# Altium footprint library new-version.PcbLib: 241 footprints (part 1 of 16)
Each footprint in its own frame and in the unit in brackets; x right, y up, seen from the top. Pads: shape width x height; smd on the part's side, far side on the other; paste and mask are expansions set on the pad; w line width, h text height; cw(c..) or ccw(c..) is an arc to the next point about the centre after c.
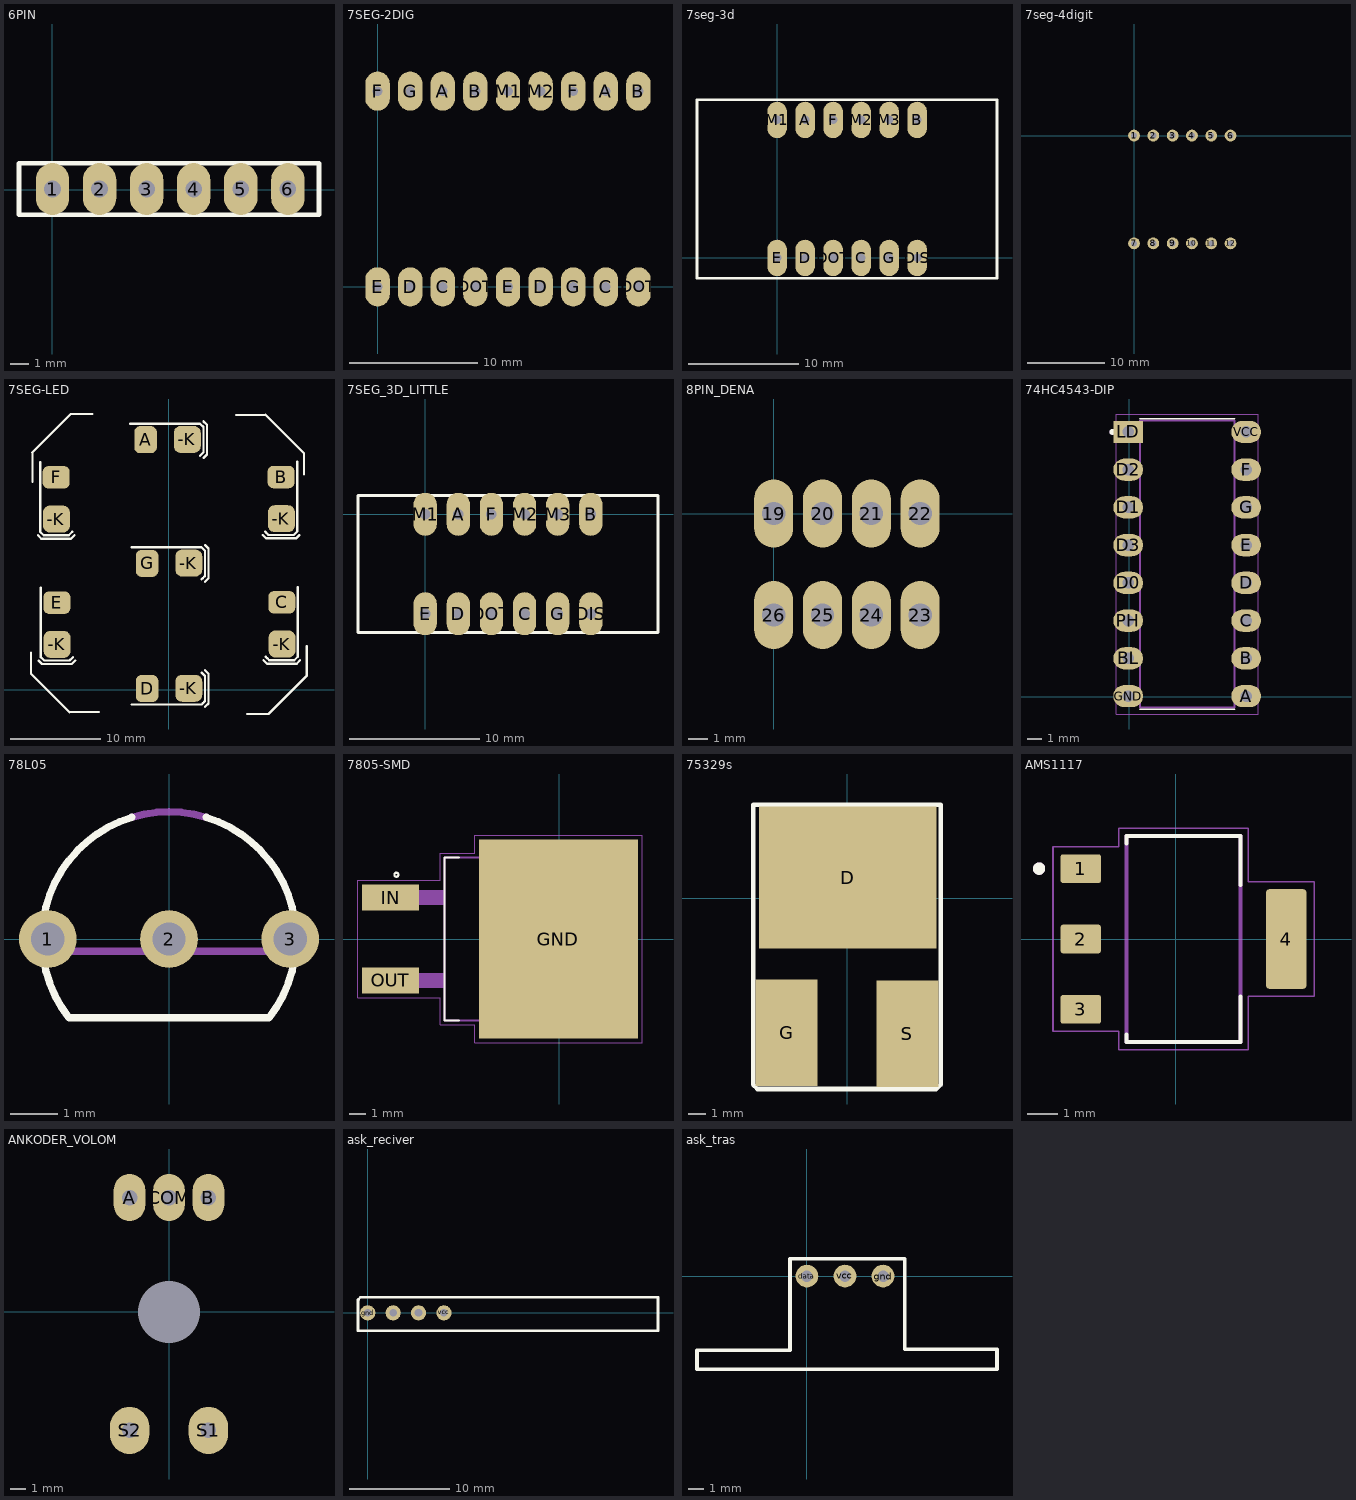
[diagram p0: the footprints below, top view; thin cyan lines are the x and y axes]

## 6PIN [mm]
pads (6):
  oval 1.8x2.8 hole 0.9: 1(0.023,0.031) 2(2.563,0.031) 3(5.103,0.031) 4(7.643,0.031) 5(10.183,0.031) 6(12.723,0.031)
Top Overlay:
  lines w0.254: -1.786,-1.366 14.405,-1.366 14.405,1.428 -1.786,1.428 -1.786,-1.366

## 7SEG-2DIG [mil]
pads (18):
  oval 75x120 hole 30: A(200,600) A(700,600) B(300,600) B(800,600) C(200,0) C(700,0) D(100,0) D(500,0) DOT(300,0) DOT(800,0) E(0,0) E(400,0) F(0,600) F(600,600) G(100,600) G(600,0) M1(400,600) M2(500,600)

## 7seg-3d [mil]
pads (12):
  oval 70x130 hole 30: A(100,492.52) B(500,492.52) C(300,0) D(100,0) DIS(500,0) DOT(200,0) E(-0.01,-0.01) F(200,492.52) G(400,0) M1(0,492.52) M2(300,492.52) M3(400,492.52)
Top Overlay:
  lines w10: -286,-73 784.87,-73 784.87,564.8 -286,564.8 -286,-73

## 7seg-4digit [mil]
pads (12):
  round 60 hole 30: 1(0,0) 2(98.43,0) 3(196.85,0) 4(295.28,0) 5(393.7,0) 6(492.13,0) 7(0,-550) 8(98.43,-550) 9(196.85,-550) 10(295.28,-550) 11(393.7,-550) 12(492.13,-550)
Bottom Overlay:
  lines w10: -500,-610 -500,65 -255,65 1030,65 1030,-610 -500,-610

## 7SEG-LED [mm]
pads (14):
  rrect50% 3x3 smd: -K(-12.496,18.978) -K(-12.423,5.057) -K(2.035,27.822) -K(2.2,0.176) -K(2.2,14.082) -K(12.489,19.015) -K(12.563,5.094)
  rrect50% 2.5x3 smd: A(-2.596,27.793) D(-2.431,0.147) G(-2.431,14.052)
  rrect50% 3x2.5 smd: B(12.46,23.646) C(12.533,9.725) E(-12.453,9.688) F(-12.526,23.609)
Top Overlay:
  lines w0.254: -15.318,4.153 -15.318,1.78 -11.05,-2.488 ; -15.164,23.097 -15.164,26.378 -15.185,26.378 -10.916,30.647 -8.544,30.647 -8.544,30.642 -8.507,30.642 ; -14.555,17.172 -14.174,16.791 -11.126,16.791 -10.872,16.791 -10.491,17.172 ; -14.482,3.251 -14.101,2.87 -11.053,2.87 -10.799,2.87 -10.418,3.251 ; -14.301,25.3 -14.301,17.553 -14.174,17.426 -13.92,17.172 -11.126,17.172 -10.745,17.553 ; -14.228,11.379 -14.228,3.632 -14.101,3.505 -13.847,3.251 -11.053,3.251 -10.672,3.632 ; -11.05,-2.468 -7.769,-2.468 ; -4.287,29.574 3.46,29.574 3.841,29.193 3.841,26.399 3.587,26.145 3.46,26.018 ; -4.122,-1.628 3.625,-1.628 3.752,-1.501 4.006,-1.247 4.006,1.547 3.625,1.928 ; -4.122,15.833 3.625,15.833 4.006,15.452 4.006,12.658 3.752,12.404 3.625,12.277 ; 3.841,25.764 4.222,26.145 4.222,29.193 4.222,29.447 3.841,29.828 ; 4.006,-1.882 4.387,-1.501 4.387,1.547 4.387,1.801 4.006,2.182 ; 4.006,12.023 4.387,12.404 4.387,15.452 4.387,15.706 4.006,16.087 ; 7.457,30.545 10.738,30.545 ; 8.688,-2.682 11.06,-2.682 15.329,1.587 ; 10.431,17.209 10.812,16.828 13.86,16.828 14.114,16.828 14.495,17.209 ; 10.504,3.287 10.885,2.906 13.933,2.906 14.187,2.906 14.568,3.287 ; 10.685,17.59 10.812,17.463 11.066,17.209 13.86,17.209 14.241,17.59 14.241,25.337 ; 10.738,30.566 15.007,26.297 15.007,23.924 ; 10.758,3.668 10.885,3.541 11.139,3.287 13.933,3.287 14.314,3.668 14.314,11.415 ; 15.308,1.587 15.308,4.867
3D body "led.stp": height 0.7, standoff 0.1, extent -13.974,4.188 -10.974,10.188
3D body "led.stp": height 0.7, standoff 0.1, extent -14.047,18.109 -11.047,24.109
3D body "led.stp": height 0.7, standoff 0.1, extent 11.012,4.224 14.012,10.224
3D body "led.stp": height 0.7, standoff 0.1, extent 10.939,18.146 13.939,24.146
3D body "led.stp": height 0.7, standoff 0.1, extent -3.096,26.272 2.904,29.271
3D body "led.stp": height 0.7, standoff 0.1, extent -2.931,12.531 3.069,15.531
3D body "led.stp": height 0.7, standoff 0.1, extent -2.931,-1.374 3.069,1.626

## 7SEG_3D_LITTLE [mil]
pads (12):
  oval 70x130 hole 31.5: A(100,0) B(500,0) C(300,-300) D(100,-300) DIS(500,-300) DOT(200,-300) E(0,-300) F(200,0) G(400,-300) M1(0,0) M2(300,0) M3(400,0)
Top Overlay:
  lines w10: -202.76,-356.69 702.76,-356.69 702.76,56.69 -202.76,56.69 -202.76,-356.69

## 8PIN_DENA [mm]
pads (8):
  oval 2x3.5 hole 1.2: 19(0,0) 20(2.5,0) 21(5,0) 22(7.5,0) 23(7.5,-5.2) 24(5,-5.2) 25(2.5,-5.2) 26(0,-5.2)
Bottom Overlay:
  lines w0.3: -3.93,-6.604 -3.676,-6.858 11.31,-6.858 11.437,-6.731 11.437,1.531 11.19,1.778 -3.676,1.778 -3.93,1.524 -3.93,-6.604

## 74HC4543-DIP [mm]
pads (16):
  oval 2x1.5 hole 0.78: A(7.876,0.037) B(7.876,2.577) BL(-0.064,2.577) C(7.876,5.117) D(7.876,7.657) D0(-0.064,7.657) D1(-0.064,12.737) D2(-0.064,15.277) D3(-0.064,10.197) E(7.876,10.197) F(7.876,15.277) G(7.876,12.737) GND(-0.064,0.037) PH(-0.064,5.117) VCC(7.876,17.817)
  rect 2x1.5 hole 0.78: LD(-0.064,17.817)
Top Overlay:
  circle w0.2: c-1.129,17.817 r0.1
  lines w0.127: 0.731,-0.848 7.081,-0.848 ; 0.731,18.702 7.081,18.702
Mechanical 13:
  circle w0.2: c-1.129,17.817 r0.1
  lines w0.127: 0.731,-0.725 0.731,18.58 7.081,18.58 7.081,-0.725 0.731,-0.725
Mechanical 15:
  lines w0.05: -0.879,-1.168 -0.879,19.022 8.691,19.022 8.691,-1.168 -0.879,-1.168
3D body "TL494CN--3DModel-STEP-56544.STEP": height 4.44, standoff -3.3, extent 0.077,-0.534 7.989,18.643

## 78L05 [mm]
pads (3):
  round 1.208 hole 0.7: 1(-2.54,0) 2(0,0) 3(2.54,0)
Top Overlay:
  lines w0.152: -2.102,-1.642 cw(c-0.001,0) -0.78,2.55 ; -2.095,-1.651 2.095,-1.651 ; 0.78,2.55 cw(c0.001,0) 2.102,-1.642
Mechanical 13:
  lines w0.152: -2.254,-0.254 -0.286,-0.254 ; -0.78,2.55 cw(c0,0) 0.78,2.55 ; 0.286,-0.254 2.254,-0.254

## 7805-SMD [mm]
pads (3):
  rect 9.75x12.2 smd: GND(-0.041,0.004)
  rect 3.5x1.6 smd: IN(-10.316,2.544) OUT(-10.316,-2.536)
Top Overlay:
  circle w0.127: c-9.966,3.941 r0.127
  lines w0.127: -6.131,-4.996 -7.016,-4.996 -7.016,5.004 -6.131,5.004
Top Paste:
  region: -2.306,2.366 -3.686,2.366 -3.686,3.834 -2.306,3.834
  region: -0.336,2.366 -1.715,2.366 -1.715,3.834 -0.336,3.834
  region: -2.306,-3.83 -3.686,-3.83 -3.686,-2.356 -2.306,-2.356
  region: -0.336,-3.831 -1.714,-3.831 -1.714,-2.356 -0.336,-2.356
  region: -0.336,-1.762 -1.715,-1.762 -1.715,-0.291 -0.336,-0.291
  region: -0.336,0.299 -1.714,0.299 -1.714,1.769 -0.336,1.769
  region: -2.306,0.3 -3.686,0.3 -3.686,1.769 -2.306,1.769
  region: -2.306,-1.763 -3.686,-1.763 -3.686,-0.291 -2.306,-0.291
  region: 3.604,-3.833 2.234,-3.833 2.234,-2.356 3.604,-2.356
  region: 1.634,-3.832 0.26,-3.832 0.26,-2.356 1.634,-2.356
  region: 3.604,2.366 2.228,2.366 2.228,3.834 3.604,3.834
  region: 1.634,2.366 0.258,2.366 0.258,3.834 1.634,3.834
  region: 1.634,-1.763 0.259,-1.763 0.259,-0.291 1.634,-0.291
  region: 3.604,-1.762 2.227,-1.762 2.227,-0.291 3.604,-0.291
  region: 3.604,0.299 2.233,0.299 2.233,1.769 3.604,1.769
  region: 1.634,0.299 0.26,0.299 0.26,1.769 1.634,1.769
Mechanical 13:
  region: -7.016,-2.992 -11.832,-2.992 -11.832,-2.086 -7.016,-2.086
  region: -7.016,2.098 -11.832,2.098 -11.832,2.994 -7.016,2.994
  lines w0.127: -7.016,-4.996 -7.016,5.004 3.784,5.004 3.784,-4.996 -7.016,-4.996
Mechanical 15:
  lines w0.05: -12.316,-3.596 -12.316,3.604 -7.266,3.604 -7.266,5.254 -5.166,5.254 -5.166,6.354 5.084,6.354 5.084,-6.346 -5.166,-6.346 -5.166,-5.246 -7.266,-5.246 -7.266,-3.596 -12.316,-3.596

## 75329s [mm]
pads (3):
  rect 10x8 smd: D(0.02,1.163)
  rect 3.5x6 smd: G(-3.43,-7.583) S(3.383,-7.641)
Top Overlay:
  lines w0.254: -5.304,-10.52 -5.304,5.283 -5.295,5.274 5.272,5.274 5.272,-10.504 5.022,-10.753 -5.071,-10.753 -5.304,-10.52

## AMS1117 [mm]
pads (4):
  rrect15% 1.31x0.93 smd: 1(-3.091,2.29) 2(-3.091,0) 3(-3.091,-2.29)
  rrect15% 1.31x3.24 smd: 4(3.599,0)
Top Overlay:
  circle w0.2: c-4.449,2.29 r0.1
  lines w0.127: -1.606,-3.11 -1.606,-3.36 2.114,-3.36 2.114,-1.87 ; -1.606,3.1 -1.606,3.36 2.114,3.36 2.114,1.76
Mechanical 13:
  circle w0.2: c-4.449,2.29 r0.1
  lines w0.127: -1.606,-3.36 -1.606,3.36 2.114,3.36 2.114,-3.36 -1.606,-3.36
Mechanical 15:
  lines w0.05: -3.996,-3.01 -1.856,-3.01 -1.856,-3.61 2.364,-3.61 2.364,-1.87 4.504,-1.87 4.504,1.87 2.364,1.87 2.364,3.61 -1.856,3.61 -1.856,3.01 -3.996,3.01 -3.996,-3.01
3D body "AMS1117.STEP": height 1.73, standoff -0.08, extent -3.372,-3.251 3.626,3.251

## ANKODER_VOLOM [mil]
pads (6):
  round 0 hole 157.48: 4(0,-1)
  oval 80x120 hole 39.37: A(-100,289) B(100,289) COM(0,289)
  oval 100x120 hole 39.37: S1(100,-301) S2(-100,-301)
Bottom Overlay:
  lines w10: -197.65,143.77 ccw(c0,-1) -197.51,-145.97 ; -175,-366 -175,-361 ; 197.51,143.97 cw(c0,-1) 197.65,-145.77
  lines w15: 175,-129.28 175,-366 155,-386 -115,-386 -155,-386 -175,-366 -175,-129.45 cw(c0,-1) -175.13,127.28 -175.13,348.87 -150,374 150,374 175,349 175,127.45 cw(c0,-1) 175.13,-129.28

## ask [mm]

## ask_reciver [mil]
pads (4):
  round 60 hole 30: data(100,0) data(200,0) gnd(0,0.2) vcc(300,0)
Top Overlay:
  lines w10: -35.93,52.2 -38.33,52.2 ; -38.33,52.2 -38.33,-70.51 1142.9,-70.51 1142.9,61.6 -28.93,61.6 -38.33,52.2

## ask_tras [mil]
pads (3):
  round 60 hole 30: data(0,0) gnd(200,0) vcc(100,0)
Top Overlay:
  lines w10: -46.42,-194.68 -285.74,-194.68 -288.59,-194.68 -288.59,-244.63 499.13,-244.63 499.13,-191.86 256.98,-191.86 256.98,45.58 -43.59,45.58 ; -44.54,-194.69 -44.54,44.63